# Altium footprint library VaneControl_v3.PcbLib: 41 footprints (part 1 of 3)
Each footprint in its own frame and in the unit in brackets; x right, y up, seen from the top. Pads: shape width x height; smd on the part's side, far side on the other; paste and mask are expansions set on the pad; w line width, h text height; cw(c..) or ccw(c..) is an arc to the next point about the centre after c.
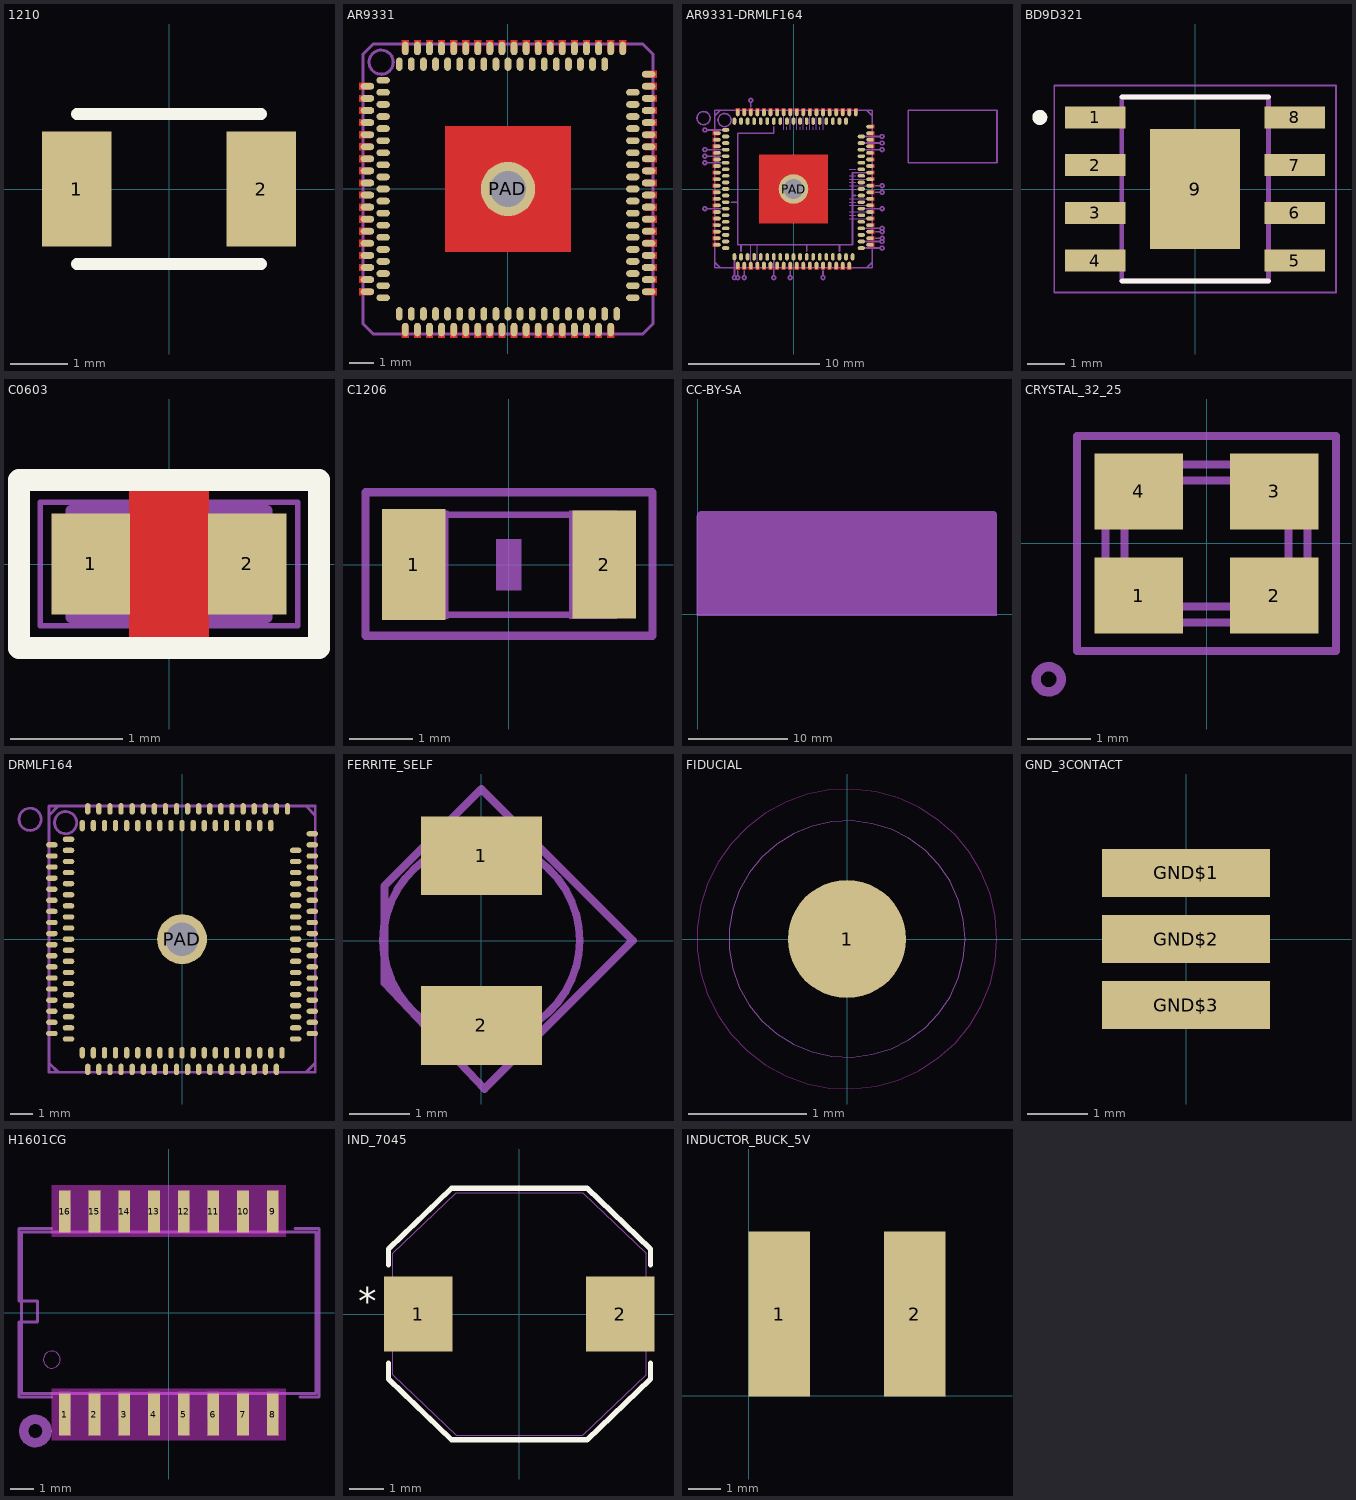
[diagram p0: the footprints below, top view; thin cyan lines are the x and y axes]

## 1210 [mm]
pads (2):
  rect 1.2x2 smd: 1(-1.6,0) 2(1.6,0)
Top Overlay:
  lines w0.203: -1.6,-1.3 1.6,-1.3 ; -1.6,1.3 1.6,1.3

## 1264EY-2R2N=P3 [mm] "FIXED IND 2.2UH 7.8A 19.2 MOHM"

## AR9331 [mil]
pads (149):
  rrect100% 22.05x11.02 smd mask+0: A3(-229.09,167.32) A4(-229.09,147.64) A5(-229.09,127.95) A6(-229.09,108.27) A7(-229.09,88.58) A8(-229.09,68.9) A9(-229.09,49.21) A10(-229.09,29.53) A11(-229.09,9.84) A12(-229.09,-9.84) A13(-229.09,-29.53) A14(-229.09,-49.21) A15(-229.09,-68.9) A16(-229.09,-88.58) A17(-229.09,-108.27) A18(-229.09,-127.95) A19(-229.09,-147.64) A20(-229.09,-167.32) A47(229.09,-167.32) A48(229.09,-147.64) A49(229.09,-127.95) A50(229.09,-108.27) A51(229.09,-88.58) A52(229.09,-68.9) A53(229.09,-49.21) A54(229.09,-29.53) A55(229.09,-9.84) A56(229.09,9.84) A57(229.09,29.53) A58(229.09,49.21) A59(229.09,68.9) A60(229.09,88.58) A61(229.09,108.27) A62(229.09,127.95) A63(229.09,147.64) A64(229.09,167.32) A65(229.09,187.01) B1(-203.5,177.17) B2(-203.5,157.48) B3(-203.5,137.8) B4(-203.5,118.11) B5(-203.5,98.43) B6(-203.5,78.74) B7(-203.5,59.06) B8(-203.5,39.37) B9(-203.5,19.69) B10(-203.5,0) B11(-203.5,-19.69) B12(-203.5,-39.37) B13(-203.5,-59.06) B14(-203.5,-78.74) B15(-203.5,-98.43) B16(-203.5,-118.11) B17(-203.5,-137.8) B18(-203.5,-157.48) B19(-203.5,-177.17) B39(203.5,-177.17) B40(203.5,-157.48) B41(203.5,-137.8) B42(203.5,-118.11) B43(203.5,-98.43) B44(203.5,-78.74) B45(203.5,-59.06) B46(203.5,-39.37) B47(203.5,-19.69) B48(203.5,0) B49(203.5,19.69) B50(203.5,39.37) B51(203.5,59.06) B52(203.5,78.74) B53(203.5,98.43) B54(203.5,118.11) B55(203.5,137.8) B56(203.5,157.48)
  rrect100% 11.02x22.05 smd mask+0: A25(-167.32,-229.09) A26(-147.64,-229.09) A27(-127.95,-229.09) A28(-108.27,-229.09) A29(-88.58,-229.09) A30(-68.9,-229.09) A31(-49.21,-229.09) A32(-29.53,-229.09) A33(-9.84,-229.09) A34(9.84,-229.09) A35(29.53,-229.09) A36(49.21,-229.09) A37(68.9,-229.09) A38(88.58,-229.09) A39(108.27,-229.09) A40(127.95,-229.09) A41(147.64,-229.09) A42(167.32,-229.09) A68(187.01,229.09) A69(167.32,229.09) A70(147.64,229.09) A71(127.95,229.09) A72(108.27,229.09) A73(88.58,229.09) A74(68.9,229.09) A75(49.21,229.09) A76(29.53,229.09) A77(9.84,229.09) A78(-9.84,229.09) A79(-29.53,229.09) A80(-49.21,229.09) A81(-68.9,229.09) A82(-88.58,229.09) A83(-108.27,229.09) A84(-127.95,229.09) A85(-147.64,229.09) A86(-167.32,229.09) B20(-177.17,-203.5) B21(-157.48,-203.5) B22(-137.8,-203.5) B23(-118.11,-203.5) B24(-98.43,-203.5) B25(-78.74,-203.5) B26(-59.06,-203.5) B27(-39.37,-203.5) B28(-19.69,-203.5) B29(0,-203.5) B30(19.69,-203.5) B31(39.37,-203.5) B32(59.06,-203.5) B33(78.74,-203.5) B34(98.43,-203.5) B35(118.11,-203.5) B36(137.8,-203.5) B37(157.48,-203.5) B38(177.17,-203.5) B59(157.48,203.5) B60(137.8,203.5) B61(118.11,203.5) B62(98.43,203.5) B63(78.74,203.5) B64(59.06,203.5) B65(39.37,203.5) B66(19.69,203.5) B67(0,203.5) B68(-19.69,203.5) B69(-39.37,203.5) B70(-59.06,203.5) B71(-78.74,203.5) B72(-98.43,203.5) B73(-118.11,203.5) B74(-137.8,203.5) B75(-157.48,203.5) B76(-177.17,203.5)
  round 88.59 / inner round 60 / far side round 88.59 hole 59.06: PAD(0,0)
Top Layer:
  region: -172.83,-242.09 -172.83,-223.58 -161.81,-223.58 -161.81,-242.09
  region: -153.15,-242.09 -153.15,-223.58 -142.13,-223.58 -142.13,-242.09
  region: -133.46,-242.09 -133.46,-223.58 -122.44,-223.58 -122.44,-242.09
  region: -113.78,-242.09 -113.78,-223.58 -102.76,-223.58 -102.76,-242.09
  region: -94.09,-242.09 -94.09,-223.58 -83.07,-223.58 -83.07,-242.09
  region: -74.41,-242.09 -74.41,-223.58 -63.39,-223.58 -63.39,-242.09
  region: -54.72,-242.09 -54.72,-223.58 -43.7,-223.58 -43.7,-242.09
  region: -35.04,-242.09 -35.04,-223.58 -24.02,-223.58 -24.02,-242.09
  region: -15.35,-242.09 -15.35,-223.58 -4.33,-223.58 -4.33,-242.09
  region: 4.33,-242.09 4.33,-223.58 15.35,-223.58 15.35,-242.09
  region: 24.02,-242.09 24.02,-223.58 35.04,-223.58 35.04,-242.09
  region: 43.7,-242.09 43.7,-223.58 54.72,-223.58 54.72,-242.09
  region: 63.39,-242.09 63.39,-223.58 74.41,-223.58 74.41,-242.09
  region: 83.07,-242.09 83.07,-223.58 94.09,-223.58 94.09,-242.09
  region: 102.76,-242.09 102.76,-223.58 113.78,-223.58 113.78,-242.09
  region: 122.44,-242.09 122.44,-223.58 133.46,-223.58 133.46,-242.09
  region: 142.13,-242.09 142.13,-223.58 153.15,-223.58 153.15,-242.09
  region: 161.81,-242.09 161.81,-223.58 172.83,-223.58 172.83,-242.09
  region: -172.83,223.58 -172.83,242.09 -161.81,242.09 -161.81,223.58
  region: -153.15,223.58 -153.15,242.09 -142.13,242.09 -142.13,223.58
  region: -133.46,223.58 -133.46,242.09 -122.44,242.09 -122.44,223.58
  region: -113.78,223.58 -113.78,242.09 -102.76,242.09 -102.76,223.58
  region: -94.09,223.58 -94.09,242.09 -83.07,242.09 -83.07,223.58
  region: -74.41,223.58 -74.41,242.09 -63.39,242.09 -63.39,223.58
  region: -54.72,223.58 -54.72,242.09 -43.7,242.09 -43.7,223.58
  region: -35.04,223.58 -35.04,242.09 -24.02,242.09 -24.02,223.58
  region: -15.35,223.58 -15.35,242.09 -4.33,242.09 -4.33,223.58
  region: 4.33,223.58 4.33,242.09 15.35,242.09 15.35,223.58
  region: 24.02,223.58 24.02,242.09 35.04,242.09 35.04,223.58
  region: 43.7,223.58 43.7,242.09 54.72,242.09 54.72,223.58
  region: 63.39,223.58 63.39,242.09 74.41,242.09 74.41,223.58
  region: 83.07,223.58 83.07,242.09 94.09,242.09 94.09,223.58
  region: 102.76,223.58 102.76,242.09 113.78,242.09 113.78,223.58
  region: 122.44,223.58 122.44,242.09 133.46,242.09 133.46,223.58
  region: 142.13,223.58 142.13,242.09 153.15,242.09 153.15,223.58
  region: 181.5,223.58 181.5,242.09 192.52,242.09 192.52,223.58
  region: 161.81,223.58 161.81,242.09 172.83,242.09 172.83,223.58
  region: 223.58,-172.83 223.58,-161.81 242.09,-161.81 242.09,-172.83
  region: 223.58,-153.15 223.58,-142.13 242.09,-142.13 242.09,-153.15
  region: 223.58,-133.46 223.58,-122.44 242.09,-122.44 242.09,-133.46
  region: 223.58,-113.78 223.58,-102.76 242.09,-102.76 242.09,-113.78
  region: 223.58,-94.09 223.58,-83.07 242.09,-83.07 242.09,-94.09
  region: 223.58,-74.41 223.58,-63.39 242.09,-63.39 242.09,-74.41
  region: 223.58,-54.72 223.58,-43.7 242.09,-43.7 242.09,-54.72
  region: 223.58,-35.04 223.58,-24.02 242.09,-24.02 242.09,-35.04
  region: 223.58,-15.35 223.58,-4.33 242.09,-4.33 242.09,-15.35
  region: 223.58,4.33 223.58,15.35 242.09,15.35 242.09,4.33
  region: 223.58,24.02 223.58,35.04 242.09,35.04 242.09,24.02
  region: 223.58,43.7 223.58,54.72 242.09,54.72 242.09,43.7
  region: 223.58,63.39 223.58,74.41 242.09,74.41 242.09,63.39
  region: 223.58,83.07 223.58,94.09 242.09,94.09 242.09,83.07
  region: 223.58,102.76 223.58,113.78 242.09,113.78 242.09,102.76
  region: 223.58,122.44 223.58,133.46 242.09,133.46 242.09,122.44
  region: 223.58,142.13 223.58,153.15 242.09,153.15 242.09,142.13
  region: 223.58,181.5 223.58,192.52 242.09,192.52 242.09,181.5
  region: 223.58,161.81 223.58,172.83 242.09,172.83 242.09,161.81
  region: -242.09,-172.83 -242.09,-161.81 -223.58,-161.81 -223.58,-172.83
  region: -242.09,-153.15 -242.09,-142.13 -223.58,-142.13 -223.58,-153.15
  region: -242.09,-133.46 -242.09,-122.44 -223.58,-122.44 -223.58,-133.46
  region: -242.09,-113.78 -242.09,-102.76 -223.58,-102.76 -223.58,-113.78
  region: -242.09,-94.09 -242.09,-83.07 -223.58,-83.07 -223.58,-94.09
  region: -242.09,-74.41 -242.09,-63.39 -223.58,-63.39 -223.58,-74.41
  region: -242.09,-54.72 -242.09,-43.7 -223.58,-43.7 -223.58,-54.72
  region: -242.09,-35.04 -242.09,-24.02 -223.58,-24.02 -223.58,-35.04
  region: -242.09,-15.35 -242.09,-4.33 -223.58,-4.33 -223.58,-15.35
  region: -242.09,4.33 -242.09,15.35 -223.58,15.35 -223.58,4.33
  region: -242.09,24.02 -242.09,35.04 -223.58,35.04 -223.58,24.02
  region: -242.09,43.7 -242.09,54.72 -223.58,54.72 -223.58,43.7
  region: -242.09,63.39 -242.09,74.41 -223.58,74.41 -223.58,63.39
  region: -242.09,83.07 -242.09,94.09 -223.58,94.09 -223.58,83.07
  region: -242.09,102.76 -242.09,113.78 -223.58,113.78 -223.58,102.76
  region: -242.09,122.44 -242.09,133.46 -223.58,133.46 -223.58,122.44
  region: -242.09,142.13 -242.09,153.15 -223.58,153.15 -223.58,142.13
  region: -242.09,161.81 -242.09,172.83 -223.58,172.83 -223.58,161.81
  region: -102.36,-102.36 -102.36,102.36 102.36,102.36 102.36,-102.36
Top Paste:
  drawing of 74 lines, arcs and shapes, not listed
Top Solder:
  drawing of 149 lines, arcs and shapes, not listed
Mechanical 8:
  circle w5: c-206.69,206.69 r19.69
  lines w5: -236.22,-219.69 -219.69,-236.22 219.69,-236.22 236.22,-219.69 236.22,219.69 219.69,236.22 -219.69,236.22 -236.22,219.69 -236.22,-219.69
3D body: height 10, standoff 0, extent -260.63,218.9 -260.63,218.9
3D body: height 35.43, standoff 0, extent -236.22,-236.22 236.22,236.22

## AR9331-DRMLF164 [mil]
pads (149):
  rrect100% 22.05x11.02 smd mask+0: A3(-229.09,167.32) A4(-229.09,147.64) A5(-229.09,127.95) A6(-229.09,108.27) A7(-229.09,88.58) A8(-229.09,68.9) A9(-229.09,49.21) A10(-229.09,29.53) A11(-229.09,9.84) A12(-229.09,-9.84) A13(-229.09,-29.53) A14(-229.09,-49.21) A15(-229.09,-68.9) A16(-229.09,-88.58) A17(-229.09,-108.27) A18(-229.09,-127.95) A19(-229.09,-147.64) A20(-229.09,-167.32) A47(229.09,-167.32) A48(229.09,-147.64) A49(229.09,-127.95) A50(229.09,-108.27) A51(229.09,-88.58) A52(229.09,-68.9) A53(229.09,-49.21) A54(229.09,-29.53) A55(229.09,-9.84) A56(229.09,9.84) A57(229.09,29.53) A58(229.09,49.21) A59(229.09,68.9) A60(229.09,88.58) A61(229.09,108.27) A62(229.09,127.95) A63(229.09,147.64) A64(229.09,167.32) A65(229.09,187.01) B1(-203.5,177.17) B2(-203.5,157.48) B3(-203.5,137.8) B4(-203.5,118.11) B5(-203.5,98.43) B6(-203.5,78.74) B7(-203.5,59.06) B8(-203.5,39.37) B9(-203.5,19.69) B10(-203.5,0) B11(-203.5,-19.69) B12(-203.5,-39.37) B13(-203.5,-59.06) B14(-203.5,-78.74) B15(-203.5,-98.43) B16(-203.5,-118.11) B17(-203.5,-137.8) B18(-203.5,-157.48) B19(-203.5,-177.17) B39(203.5,-177.17) B40(203.5,-157.48) B41(203.5,-137.8) B42(203.5,-118.11) B43(203.5,-98.43) B44(203.5,-78.74) B45(203.5,-59.06) B46(203.5,-39.37) B47(203.5,-19.69) B48(203.5,0) B49(203.5,19.69) B50(203.5,39.37) B51(203.5,59.06) B52(203.5,78.74) B53(203.5,98.43) B54(203.5,118.11) B55(203.5,137.8) B56(203.5,157.48)
  rrect100% 11.02x22.05 smd mask+0: A25(-167.32,-229.09) A26(-147.64,-229.09) A27(-127.95,-229.09) A28(-108.27,-229.09) A29(-88.58,-229.09) A30(-68.9,-229.09) A31(-49.21,-229.09) A32(-29.53,-229.09) A33(-9.84,-229.09) A34(9.84,-229.09) A35(29.53,-229.09) A36(49.21,-229.09) A37(68.9,-229.09) A38(88.58,-229.09) A39(108.27,-229.09) A40(127.95,-229.09) A41(147.64,-229.09) A42(167.32,-229.09) A68(187.01,229.09) A69(167.32,229.09) A70(147.64,229.09) A71(127.95,229.09) A72(108.27,229.09) A73(88.58,229.09) A74(68.9,229.09) A75(49.21,229.09) A76(29.53,229.09) A77(9.84,229.09) A78(-9.84,229.09) A79(-29.53,229.09) A80(-49.21,229.09) A81(-68.9,229.09) A82(-88.58,229.09) A83(-108.27,229.09) A84(-127.95,229.09) A85(-147.64,229.09) A86(-167.32,229.09) B20(-177.17,-203.5) B21(-157.48,-203.5) B22(-137.8,-203.5) B23(-118.11,-203.5) B24(-98.43,-203.5) B25(-78.74,-203.5) B26(-59.06,-203.5) B27(-39.37,-203.5) B28(-19.69,-203.5) B29(0,-203.5) B30(19.69,-203.5) B31(39.37,-203.5) B32(59.06,-203.5) B33(78.74,-203.5) B34(98.43,-203.5) B35(118.11,-203.5) B36(137.8,-203.5) B37(157.48,-203.5) B38(177.17,-203.5) B59(157.48,203.5) B60(137.8,203.5) B61(118.11,203.5) B62(98.43,203.5) B63(78.74,203.5) B64(59.06,203.5) B65(39.37,203.5) B66(19.69,203.5) B67(0,203.5) B68(-19.69,203.5) B69(-39.37,203.5) B70(-59.06,203.5) B71(-78.74,203.5) B72(-98.43,203.5) B73(-118.11,203.5) B74(-137.8,203.5) B75(-157.48,203.5) B76(-177.17,203.5)
  round 88.59 / inner round 60 / far side round 88.59 hole 59.06: PAD(0,0)
Top Layer:
  region: -172.83,-242.09 -172.83,-223.58 -161.81,-223.58 -161.81,-242.09
  region: -153.15,-242.09 -153.15,-223.58 -142.13,-223.58 -142.13,-242.09
  region: -133.46,-242.09 -133.46,-223.58 -122.44,-223.58 -122.44,-242.09
  region: -113.78,-242.09 -113.78,-223.58 -102.76,-223.58 -102.76,-242.09
  region: -94.09,-242.09 -94.09,-223.58 -83.07,-223.58 -83.07,-242.09
  region: -74.41,-242.09 -74.41,-223.58 -63.39,-223.58 -63.39,-242.09
  region: -54.72,-242.09 -54.72,-223.58 -43.7,-223.58 -43.7,-242.09
  region: -35.04,-242.09 -35.04,-223.58 -24.02,-223.58 -24.02,-242.09
  region: -15.35,-242.09 -15.35,-223.58 -4.33,-223.58 -4.33,-242.09
  region: 4.33,-242.09 4.33,-223.58 15.35,-223.58 15.35,-242.09
  region: 24.02,-242.09 24.02,-223.58 35.04,-223.58 35.04,-242.09
  region: 43.7,-242.09 43.7,-223.58 54.72,-223.58 54.72,-242.09
  region: 63.39,-242.09 63.39,-223.58 74.41,-223.58 74.41,-242.09
  region: 83.07,-242.09 83.07,-223.58 94.09,-223.58 94.09,-242.09
  region: 102.76,-242.09 102.76,-223.58 113.78,-223.58 113.78,-242.09
  region: 122.44,-242.09 122.44,-223.58 133.46,-223.58 133.46,-242.09
  region: 142.13,-242.09 142.13,-223.58 153.15,-223.58 153.15,-242.09
  region: 161.81,-242.09 161.81,-223.58 172.83,-223.58 172.83,-242.09
  region: -172.83,223.58 -172.83,242.09 -161.81,242.09 -161.81,223.58
  region: -153.15,223.58 -153.15,242.09 -142.13,242.09 -142.13,223.58
  region: -133.46,223.58 -133.46,242.09 -122.44,242.09 -122.44,223.58
  region: -113.78,223.58 -113.78,242.09 -102.76,242.09 -102.76,223.58
  region: -94.09,223.58 -94.09,242.09 -83.07,242.09 -83.07,223.58
  region: -74.41,223.58 -74.41,242.09 -63.39,242.09 -63.39,223.58
  region: -54.72,223.58 -54.72,242.09 -43.7,242.09 -43.7,223.58
  region: -35.04,223.58 -35.04,242.09 -24.02,242.09 -24.02,223.58
  region: -15.35,223.58 -15.35,242.09 -4.33,242.09 -4.33,223.58
  region: 4.33,223.58 4.33,242.09 15.35,242.09 15.35,223.58
  region: 24.02,223.58 24.02,242.09 35.04,242.09 35.04,223.58
  region: 43.7,223.58 43.7,242.09 54.72,242.09 54.72,223.58
  region: 63.39,223.58 63.39,242.09 74.41,242.09 74.41,223.58
  region: 83.07,223.58 83.07,242.09 94.09,242.09 94.09,223.58
  region: 102.76,223.58 102.76,242.09 113.78,242.09 113.78,223.58
  region: 122.44,223.58 122.44,242.09 133.46,242.09 133.46,223.58
  region: 142.13,223.58 142.13,242.09 153.15,242.09 153.15,223.58
  region: 181.5,223.58 181.5,242.09 192.52,242.09 192.52,223.58
  region: 161.81,223.58 161.81,242.09 172.83,242.09 172.83,223.58
  region: 223.58,-172.83 223.58,-161.81 242.09,-161.81 242.09,-172.83
  region: 223.58,-153.15 223.58,-142.13 242.09,-142.13 242.09,-153.15
  region: 223.58,-133.46 223.58,-122.44 242.09,-122.44 242.09,-133.46
  region: 223.58,-113.78 223.58,-102.76 242.09,-102.76 242.09,-113.78
  region: 223.58,-94.09 223.58,-83.07 242.09,-83.07 242.09,-94.09
  region: 223.58,-74.41 223.58,-63.39 242.09,-63.39 242.09,-74.41
  region: 223.58,-54.72 223.58,-43.7 242.09,-43.7 242.09,-54.72
  region: 223.58,-35.04 223.58,-24.02 242.09,-24.02 242.09,-35.04
  region: 223.58,-15.35 223.58,-4.33 242.09,-4.33 242.09,-15.35
  region: 223.58,4.33 223.58,15.35 242.09,15.35 242.09,4.33
  region: 223.58,24.02 223.58,35.04 242.09,35.04 242.09,24.02
  region: 223.58,43.7 223.58,54.72 242.09,54.72 242.09,43.7
  region: 223.58,63.39 223.58,74.41 242.09,74.41 242.09,63.39
  region: 223.58,83.07 223.58,94.09 242.09,94.09 242.09,83.07
  region: 223.58,102.76 223.58,113.78 242.09,113.78 242.09,102.76
  region: 223.58,122.44 223.58,133.46 242.09,133.46 242.09,122.44
  region: 223.58,142.13 223.58,153.15 242.09,153.15 242.09,142.13
  region: 223.58,181.5 223.58,192.52 242.09,192.52 242.09,181.5
  region: 223.58,161.81 223.58,172.83 242.09,172.83 242.09,161.81
  region: -242.09,-172.83 -242.09,-161.81 -223.58,-161.81 -223.58,-172.83
  region: -242.09,-153.15 -242.09,-142.13 -223.58,-142.13 -223.58,-153.15
  region: -242.09,-133.46 -242.09,-122.44 -223.58,-122.44 -223.58,-133.46
  region: -242.09,-113.78 -242.09,-102.76 -223.58,-102.76 -223.58,-113.78
  region: -242.09,-94.09 -242.09,-83.07 -223.58,-83.07 -223.58,-94.09
  region: -242.09,-74.41 -242.09,-63.39 -223.58,-63.39 -223.58,-74.41
  region: -242.09,-54.72 -242.09,-43.7 -223.58,-43.7 -223.58,-54.72
  region: -242.09,-35.04 -242.09,-24.02 -223.58,-24.02 -223.58,-35.04
  region: -242.09,-15.35 -242.09,-4.33 -223.58,-4.33 -223.58,-15.35
  region: -242.09,4.33 -242.09,15.35 -223.58,15.35 -223.58,4.33
  region: -242.09,24.02 -242.09,35.04 -223.58,35.04 -223.58,24.02
  region: -242.09,43.7 -242.09,54.72 -223.58,54.72 -223.58,43.7
  region: -242.09,63.39 -242.09,74.41 -223.58,74.41 -223.58,63.39
  region: -242.09,83.07 -242.09,94.09 -223.58,94.09 -223.58,83.07
  region: -242.09,102.76 -242.09,113.78 -223.58,113.78 -223.58,102.76
  region: -242.09,122.44 -242.09,133.46 -223.58,133.46 -223.58,122.44
  region: -242.09,142.13 -242.09,153.15 -223.58,153.15 -223.58,142.13
  region: -242.09,161.81 -242.09,172.83 -223.58,172.83 -223.58,161.81
  region: -102.36,-102.36 -102.36,102.36 102.36,102.36 102.36,-102.36
Top Paste:
  drawing of 74 lines, arcs and shapes, not listed
Top Solder:
  drawing of 149 lines, arcs and shapes, not listed
Mechanical 8:
  circle w5: c-206.69,206.69 r19.69
  lines w5: -236.22,-219.69 -219.69,-236.22 219.69,-236.22 236.22,-219.69 236.22,219.69 219.69,236.22 -219.69,236.22 -236.22,219.69 -236.22,-219.69
Mechanical 22:
  circle w5: c-269.69,212.6 r19.69
  lines w0: -236.22,-219.69 -236.22,-236.22 -219.69,-236.22 ; -236.22,219.69 -236.22,236.22 -219.69,236.22 ; 219.69,-236.22 236.22,-236.22 236.22,-219.69 ; 219.69,236.22 236.22,236.22 236.22,219.69
  lines w5: -236.22,-219.69 -236.22,-236.22 -219.69,-236.22 ; -236.22,219.69 -236.22,236.22 -219.69,236.22 ; 219.69,-236.22 236.22,-236.22 236.22,-219.69 ; 219.69,236.22 236.22,236.22 236.22,219.69
Mechanical 45:
  lines w0: -127.95,-216.54 -127.95,-167.32 ; -108.27,-216.54 -108.27,-167.32 ; -29.53,177.17 -29.53,216.54 ; -19.69,177.17 -19.69,187.01 ; -9.84,177.17 -9.84,216.54 ; 9.84,177.17 9.84,216.54 ; 19.69,177.17 19.69,187.01 ; 29.53,177.17 29.53,216.54 ; 39.37,177.17 39.37,187.01 ; 49.21,177.17 49.21,216.54 ; 59.06,177.17 59.06,187.01 ; 68.9,177.17 68.9,216.54 ; 78.74,177.17 78.74,187.01 ; 88.58,177.17 88.58,216.54 ; 167.32,-88.58 216.54,-88.58 ; 167.32,-78.74 187.01,-78.74 ; 167.32,-68.9 216.54,-68.9 ; 167.32,-49.21 216.54,-49.21 ; 167.32,-39.37 187.01,-39.37 ; 167.32,-29.53 216.54,-29.53 ; 167.32,0 187.01,0 ; 167.32,9.84 216.54,9.84 ; 167.32,19.69 187.01,19.69 ; 167.32,29.53 216.54,29.53 ; 167.32,39.37 187.01,39.37 ; 167.32,59.06 187.01,59.06
Mechanical 46:
  region: 0,0 10,0 10,10 0,10
  region: 0,0 10,0 10,10 0,10
  region: 0,0 10,0 10,10 0,10
  region: 0,0 10,0 10,10 0,10
  region: 0,0 10,0 10,10 0,10
  region: 0,0 10,0 10,10 0,10
  region: 0,0 10,0 10,10 0,10
  region: 0,0 10,0 10,10 0,10
  region: 0,0 10,0 10,10 0,10
  region: 0,0 10,0 10,10 0,10
Mechanical 49:
  circle w5: c265.75,9.84 r5.57
  circle w5: c265.75,-9.84 r5.57
  circle w5: c265.75,-59.06 r5.57
  circle w5: c265.75,118.11 r5.57
  circle w5: c265.75,137.8 r5.57
  circle w5: c265.75,157.48 r5.57
  circle w5: c265.75,-118.11 r5.57
  circle w5: c265.75,-127.95 r5.57
  circle w5: c265.75,-147.64 r5.57
  circle w5: c265.75,-157.48 r5.57
  circle w5: c265.75,-177.17 r5.57
  circle w5: c88.58,-265.75 r5.57
  circle w5: c-9.84,-265.75 r5.57
  circle w5: c-59.06,-265.75 r5.57
  circle w5: c-147.64,-265.75 r5.57
  circle w5: c-167.32,-265.75 r5.57
  circle w5: c-177.17,-265.75 r5.57
  circle w5: c-265.75,-59.06 r5.57
  circle w5: c-265.75,78.74 r5.57
  circle w5: c-265.75,98.43 r5.57
  circle w5: c-265.75,118.11 r5.57
  circle w5: c-265.75,177.17 r5.57
  circle w5: c-127.95,265.75 r5.57
  lines w5: -259.84,-59.06 -216.54,-59.06 ; -259.84,78.74 -216.54,78.74 ; -259.84,98.43 -216.54,98.43 ; -259.84,118.11 -216.54,118.11 ; -259.84,177.17 -216.54,177.17 ; -177.17,-259.84 -177.17,-216.54 ; -167.32,-259.84 -167.32,-246.06 ; -147.64,-259.84 -147.64,-246.06 ; -127.95,246.06 -127.95,259.84 ; -59.06,-259.84 -59.06,-216.54 ; -9.84,-259.84 -9.84,-246.06 ; 88.58,-259.84 88.58,-246.06 ; 216.54,-177.17 259.84,-177.17 ; 216.54,-157.48 259.84,-157.48 ; 216.54,-118.11 259.84,-118.11 ; 216.54,-59.06 259.84,-59.06 ; 216.54,118.11 259.84,118.11 ; 216.54,137.8 259.84,137.8 ; 216.54,157.48 259.84,157.48 ; 246.06,-147.64 259.84,-147.64 ; 246.06,-127.95 259.84,-127.95 ; 246.06,-9.84 259.84,-9.84 ; 246.06,9.84 259.84,9.84
Mechanical 50:
  lines w5: -187.01,-39.37 -167.32,-39.37 ; -157.48,-187.01 -157.48,-167.32 ; -59.06,187.01 -59.06,167.32 -167.32,167.32 -167.32,-39.37 ; 39.37,-187.01 39.37,-167.32 ; 137.8,-187.01 137.8,-167.32 ; 216.54,49.21 177.17,49.21 177.17,-19.69 ; -167.32,-39.37 -167.32,-167.32 -157.48,-167.32 ; -157.48,-167.32 39.37,-167.32 ; 39.37,-167.32 137.8,-167.32 ; 137.8,-167.32 177.17,-167.32 177.17,-19.69 ; 177.17,-19.69 187.01,-19.69 177.17,-19.69
Mechanical 51:
  lines w5: 344.49,78.74 610.24,78.74 610.24,236.22 344.49,236.22 344.49,78.74

## BD9D321 [mm]
pads (9):
  rect 1.61x0.58 smd: 1(-2.655,1.905) 2(-2.655,0.635) 3(-2.655,-0.635) 4(-2.655,-1.905) 5(2.655,-1.905) 6(2.655,-0.635) 7(2.655,0.635) 8(2.655,1.905)
  rect 2.4x3.2 smd: 9(0,0)
Top Overlay:
  circle w0.2: c-4.135,1.905 r0.1
  lines w0.127: -1.95,-2.45 1.95,-2.45 ; -1.95,2.45 1.95,2.45
Top Paste:
  region: -0.762,1.01 0.76,1.01 0.76,-1.012 -0.762,-1.012
Mechanical 1:
  circle w0.2: c-3.135,1.905 r0.1
  lines w0.127: -1.95,-2.45 1.95,-2.45 1.95,2.45 -1.95,2.45 -1.95,-2.45
Mechanical 4:
  lines w0.05: -3.75,-2.75 3.75,-2.75 3.75,2.75 -3.75,2.75 -3.75,-2.75

## C0603 [mm]
pads (2):
  rect 0.7x0.9 smd: 1(-0.7,0) 2(0.7,0)
Top Layer:
  pour cut-out: 0.356,-0.711 -0.356,-0.711 -0.356,0.711 0.356,0.711
Top Overlay:
  lines w0.2: -1.34,-0.75 1.34,-0.75 1.34,0.75 -1.34,0.75 -1.34,-0.75
Mechanical 13:
  lines w0.1: -0.875,-0.475 -0.875,0.475 0.875,0.475 0.875,-0.475 -0.875,-0.475
Mechanical 15:
  lines w0.05: -0.475,0 0.475,0 ; 0,-0.475 0,0.475 ; -1.15,-0.55 -1.15,0.55 1.15,0.55 1.15,-0.55 -1.15,-0.55
3D body: height 1, standoff 0, extent -0.525,-0.475 0.525,0.475
3D body: height 1, standoff 0, extent -0.875,-0.475 -0.525,0.475
3D body: height 1, standoff 0, extent 0.525,-0.475 0.875,0.475

## C1206 [mm]
pads (2):
  rect 1x1.75 smd: 1(-1.5,0)
  rect 1x1.7 smd: 2(1.5,0)
Mechanical 8:
  region: 0.952,-0.849 0.952,0.851 1.702,0.851 1.702,-0.849
  region: -1.702,-0.851 -1.702,0.849 -0.952,0.849 -0.952,-0.851
  lines w0.102: -0.965,-0.787 0.965,-0.787 ; -0.965,0.787 0.965,0.787
Mechanical 22:
  lines w0.127: -2.26,-1.12 2.26,-1.12 2.26,1.14 -2.26,1.14 -2.26,-1.12
Mechanical 26:
  region: -0.2,-0.4 -0.2,0.4 0.2,0.4 0.2,-0.4

## CC-BY-SA [mm]
Mechanical 53:
  region: -0.08,-0.094 -0.08,10.092 29.714,10.092 29.714,-0.094
Mechanical 54:
  circle w0.7: c15.74,6.51 r2.75
  circle w0.7: c22.84,6.536 r2.75
  circle w0.762: c5.127,5.418 r3.619
  region: 1.19,2.929 1.249,2.829 1.379,2.639 1.526,2.46 1.688,2.295 1.774,2.218 1.914,2.045 2.231,1.735 2.592,1.477 2.988,1.278 3.197,1.202 3.479,1.084 4.064,0.907 4.668,0.811 5.279,0.797 5.584,0.821 5.895,0.85 6.504,0.981 7.084,1.207 7.622,1.521 7.87,1.71 8.037,1.84 8.355,2.121 8.648,2.427 8.915,2.756 9.039,2.929 29.943,2.929 29.943,-0.17 -0.055,-0.17 -0.055,2.929
  lines w0: 2.931,5.415 2.931,5.786 ; 15.173,7.468 16.359,7.468 ; 16.216,4.691 16.216,6.095
  lines w0.254: 0.022,-0.068 0.022,9.812 cw(c0.428,9.812) 0.428,10.219 29.486,10.219 cw(c29.486,9.888) 29.816,9.888 29.816,-0.068 0.047,-0.068
Mechanical 55:
  circle w3.81: c5.152,5.418 r1.27
  circle w2.54: c15.693,6.51 r1.103
  circle w2.54: c22.856,6.51 r1.103
  region: 0,0 0.254,0 0.254,0.254 0,0.254
  region: 0,0 0.254,0 0.254,0.254 0,0.254
  region: 0,0 0.254,0 0.254,0.254 0,0.254
  region: 0,0 0.254,0 0.254,0.254 0,0.254
Mechanical 56:
  circle w0: c15.77,8.034 r0.464
  region: 15.312,4.681 16.227,4.681 16.227,6.104 16.557,6.104 16.557,7.374 16.557,7.394 16.542,7.431 16.513,7.46 16.476,7.475 16.455,7.475 15.084,7.475 15.064,7.475 15.026,7.46 14.998,7.431 14.982,7.394 14.982,7.374 14.982,6.104 15.312,6.104
  region: 0,0 0.254,0 0.254,0.254 0,0.254
  region: 0,0 0.254,0 0.254,0.254 0,0.254
  region: 0,0 0.254,0 0.254,0.254 0,0.254
  region: 0,0 0.254,0 0.254,0.254 0,0.254
  region: 0,0 0.254,0 0.254,0.254 0,0.254
  region: 0,0 0.254,0 0.254,0.254 0,0.254

## CRYSTAL_32_25 [mm]
pads (4):
  rect 1.4x1.2 smd: 1(-1.075,-0.825) 2(1.075,-0.825) 3(1.075,0.825) 4(-1.075,0.825)
Mechanical 8:
  lines w0.127: -1.6,1 ccw(c-1.625,1.225) -1.4,1.25 ; -1.6,1 ccw(c-1.625,1.225) -1.4,1.25 ; -1.6,1 -1.6,-1 cw(c-1.625,-1.225) -1.4,-1.25 1.4,-1.25 cw(c1.625,-1.225) 1.6,-1 1.6,1 cw(c1.625,1.225) 1.4,1.25 -1.4,1.25 ; -1.3,-0.7 ccw(c-1,-0.7) -1,-1 1,-1 ccw(c1,-0.7) 1.3,-0.7 1.3,0.7 ccw(c1,0.7) 1,1 0,1 -1,1 ccw(c-1,0.7) -1.3,0.7 -1.3,-0.7
Mechanical 22:
  circle w0.15: c-2.5,-2.15 r0.2
  lines w0.127: -2.05,-1.7 2.05,-1.7 2.05,1.7 -2.05,1.7 -2.05,-1.7

## DRMLF164 [mm]
pads (149):
  rrect100% 0.52x0.24 smd mask+0: A3(-5.869,4.25) A4(-5.869,3.75) A5(-5.869,3.25) A6(-5.869,2.75) A7(-5.869,2.25) A8(-5.869,1.75) A9(-5.869,1.25) A10(-5.869,0.75) A11(-5.869,0.25) A12(-5.869,-0.25) A13(-5.869,-0.75) A14(-5.869,-1.25) A15(-5.869,-1.75) A16(-5.869,-2.25) A17(-5.869,-2.75) A18(-5.869,-3.25) A19(-5.869,-3.75) A20(-5.869,-4.25) A47(5.869,-4.25) A48(5.869,-3.75) A49(5.869,-3.25) A50(5.869,-2.75) A51(5.869,-2.25) A52(5.869,-1.75) A53(5.869,-1.25) A54(5.869,-0.75) A55(5.869,-0.25) A56(5.869,0.25) A57(5.869,0.75) A58(5.869,1.25) A59(5.869,1.75) A60(5.869,2.25) A61(5.869,2.75) A62(5.869,3.25) A63(5.869,3.75) A64(5.869,4.25) A65(5.869,4.75) B1(-5.119,4.5) B2(-5.119,4) B3(-5.119,3.5) B4(-5.119,3) B5(-5.119,2.5) B6(-5.119,2) B7(-5.119,1.5) B8(-5.119,1) B9(-5.119,0.5) B10(-5.119,0) B11(-5.119,-0.5) B12(-5.119,-1) B13(-5.119,-1.5) B14(-5.119,-2) B15(-5.119,-2.5) B16(-5.119,-3) B17(-5.119,-3.5) B18(-5.119,-4) B19(-5.119,-4.5) B39(5.119,-4.5) B40(5.119,-4) B41(5.119,-3.5) B42(5.119,-3) B43(5.119,-2.5) B44(5.119,-2) B45(5.119,-1.5) B46(5.119,-1) B47(5.119,-0.5) B48(5.119,0) B49(5.119,0.5) B50(5.119,1) B51(5.119,1.5) B52(5.119,2) B53(5.119,2.5) B54(5.119,3) B55(5.119,3.5) B56(5.119,4)
  rrect100% 0.24x0.52 smd mask+0: A25(-4.25,-5.869) A26(-3.75,-5.869) A27(-3.25,-5.869) A28(-2.75,-5.869) A29(-2.25,-5.869) A30(-1.75,-5.869) A31(-1.25,-5.869) A32(-0.75,-5.869) A33(-0.25,-5.869) A34(0.25,-5.869) A35(0.75,-5.869) A36(1.25,-5.869) A37(1.75,-5.869) A38(2.25,-5.869) A39(2.75,-5.869) A40(3.25,-5.869) A41(3.75,-5.869) A42(4.25,-5.869) A68(4.75,5.869) A69(4.25,5.869) A70(3.75,5.869) A71(3.25,5.869) A72(2.75,5.869) A73(2.25,5.869) A74(1.75,5.869) A75(1.25,5.869) A76(0.75,5.869) A77(0.25,5.869) A78(-0.25,5.869) A79(-0.75,5.869) A80(-1.25,5.869) A81(-1.75,5.869) A82(-2.25,5.869) A83(-2.75,5.869) A84(-3.25,5.869) A85(-3.75,5.869) A86(-4.25,5.869) B20(-4.5,-5.119) B21(-4,-5.119) B22(-3.5,-5.119) B23(-3,-5.119) B24(-2.5,-5.119) B25(-2,-5.119) B26(-1.5,-5.119) B27(-1,-5.119) B28(-0.5,-5.119) B29(0,-5.119) B30(0.5,-5.119) B31(1,-5.119) B32(1.5,-5.119) B33(2,-5.119) B34(2.5,-5.119) B35(3,-5.119) B36(3.5,-5.119) B37(4,-5.119) B38(4.5,-5.119) B59(4,5.119) B60(3.5,5.119) B61(3,5.119) B62(2.5,5.119) B63(2,5.119) B64(1.5,5.119) B65(1,5.119) B66(0.5,5.119) B67(0,5.119) B68(-0.5,5.119) B69(-1,5.119) B70(-1.5,5.119) B71(-2,5.119) B72(-2.5,5.119) B73(-3,5.119) B74(-3.5,5.119) B75(-4,5.119) B76(-4.5,5.119)
  round 2.25 / inner round 1.524 / far side round 2.25 hole 1.5: PAD(0,0)
Top Solder:
  drawing of 149 lines, arcs and shapes, not listed
Mechanical 8:
  circle w0.127: c-5.25,5.25 r0.5
  lines w0.127: -6,-5.58 -6,5.58 -5.58,6 5.58,6 6,5.58 6,-5.58 5.58,-6 -5.58,-6 -6,-5.58
Mechanical 22:
  circle w0.127: c-6.85,5.4 r0.5
  lines w0: -6,-5.58 -6,-6 -5.58,-6 ; -6,5.58 -6,6 -5.58,6 ; 5.58,-6 6,-6 6,-5.58 ; 5.58,6 6,6 6,5.58
  lines w0.127: -6,-5.58 -6,-6 -5.58,-6 ; -6,5.58 -6,6 -5.58,6 ; 5.58,-6 6,-6 6,-5.58 ; 5.58,6 6,6 6,5.58

## FERRITE_SELF [mm]
pads (2):
  rect 2x1.3 smd: 1(0,1.4) 2(0,-1.4)
Mechanical 8:
  circle w0.127: c0,0 r1.623
  lines w0.127: -1.6,-0.7 -1.6,0.9 0,2.5 2.5,0 0.05,-2.45 -1.6,-0.7
Mechanical 22:
  lines w0.127: -1.15,-1.15 -1.6,-0.7 -1.6,0.9 -1.15,1.35 ; 1.25,-1.25 2.5,0 1.25,1.25

## FIDUCIAL [mm]
pads (1):
  rrect100% 1x1 smd paste+0 mask+0: 1(0,0)
Top Layer keep-out:
  circle w0: c0,0 r1.27
Top Solder:
  circle w0: c0,0 r1.1
Mechanical 24:
  circle w0: c0,0 r1

## GND_3CONTACT [mil]
pads (3):
  rect 110.24x31.5 smd: GND$1(0,43.31) GND$2(0,0) GND$3(0,-43.31)

## H1601CG [mm]
pads (16):
  rect 0.5x1.8 smd: 1(-4.445,-4.349) 2(-3.175,-4.349) 3(-1.905,-4.349) 4(-0.635,-4.349) 5(0.635,-4.349) 6(1.905,-4.349) 7(3.175,-4.349) 8(4.445,-4.349) 9(4.445,4.325) 10(3.175,4.325) 11(1.905,4.325) 12(0.635,4.325) 13(-0.635,4.325) 14(-1.905,4.325) 15(-3.175,4.325) 16(-4.445,4.325)
Top Layer keep-out:
  region: -5,-5.45 -5,-3.25 5,-3.25 5,-5.45
  region: -5,3.25 -5,5.45 5,5.45 5,3.25
Mechanical 8:
  circle w0: c-5,-2 r0.361
  region: -4.675,3.504 -4.675,4.624 -4.215,4.624 -4.215,3.504
  region: -3.405,3.504 -3.405,4.624 -2.945,4.624 -2.945,3.504
  region: -2.135,3.504 -2.135,4.624 -1.675,4.624 -1.675,3.504
  region: -0.865,3.504 -0.865,4.624 -0.405,4.624 -0.405,3.504
  region: 0.405,3.504 0.405,4.624 0.865,4.624 0.865,3.504
  region: 1.675,3.504 1.675,4.624 2.135,4.624 2.135,3.504
  region: 2.945,3.504 2.945,4.624 3.405,4.624 3.405,3.504
  region: 4.215,3.504 4.215,4.624 4.675,4.624 4.675,3.504
  region: -4.675,-4.497 -4.675,-3.377 -4.215,-3.377 -4.215,-4.497
  region: -3.405,-4.497 -3.405,-3.377 -2.945,-3.377 -2.945,-4.497
  region: -2.135,-4.497 -2.135,-3.377 -1.675,-3.377 -1.675,-4.497
  region: -0.865,-4.497 -0.865,-3.377 -0.405,-3.377 -0.405,-4.497
  region: 0.405,-4.497 0.405,-3.377 0.865,-3.377 0.865,-4.497
  region: 1.675,-4.497 1.675,-3.377 2.135,-3.377 2.135,-4.497
  region: 2.945,-4.497 2.945,-3.377 3.405,-3.377 3.405,-4.497
  region: 4.215,-4.497 4.215,-3.377 4.675,-3.377 4.675,-4.497
  lines w0.127: -6.3,-3.45 6.3,-3.45 6.3,3.45 -6.3,3.45 -6.3,-3.45
Mechanical 22:
  circle w0.406: c-5.7,-5.05 r0.5
  lines w0.127: -5,-3.6 -6.4,-3.6 -6.4,-0.4 -5.6,-0.4 -5.6,0.5 -6.4,0.5 -6.4,3.6 -5,3.6 ; 5.4,3.6 6.42,3.6 6.42,-3.6 5.6,-3.6

## IND_7045 [mm] "buck inductor 3v3"
pads (2):
  rect 2x2.2 smd: 1(-2.95,0) 2(2.95,0)
Top Overlay:
  lines w0.152: -3.827,-1.433 -3.827,-1.902 -1.977,-3.677 1.977,-3.677 3.827,-1.902 3.827,-1.433 ; -3.827,1.433 -3.827,1.902 -1.977,3.677 1.977,3.677 3.827,1.902 3.827,1.433
  text "*" at -4.716,0 h0.79
Mechanical 1:
  lines w0.025: -3.7,-1.775 -3.7,1.775 -1.85,3.55 1.85,3.55 3.7,1.775 3.7,-1.775 1.85,-3.55 -1.85,-3.55 -3.7,-1.775
  text "*" at -3.192,0 h0.79

## INDUCTOR_BUCK_5V [mm]
pads (2):
  rect 1.9x5.1 smd: 1(0.94,2.54) 2(5.14,2.54)